# Altium footprint library G6K-2F-Y-TR.PcbLib: 1 footprints
Each footprint in its own frame and in the unit in brackets; x right, y up, seen from the top. Pads: shape width x height; smd on the part's side, far side on the other; paste and mask are expansions set on the pad; w line width, h text height; cw(c..) or ccw(c..) is an arc to the next point about the centre after c.
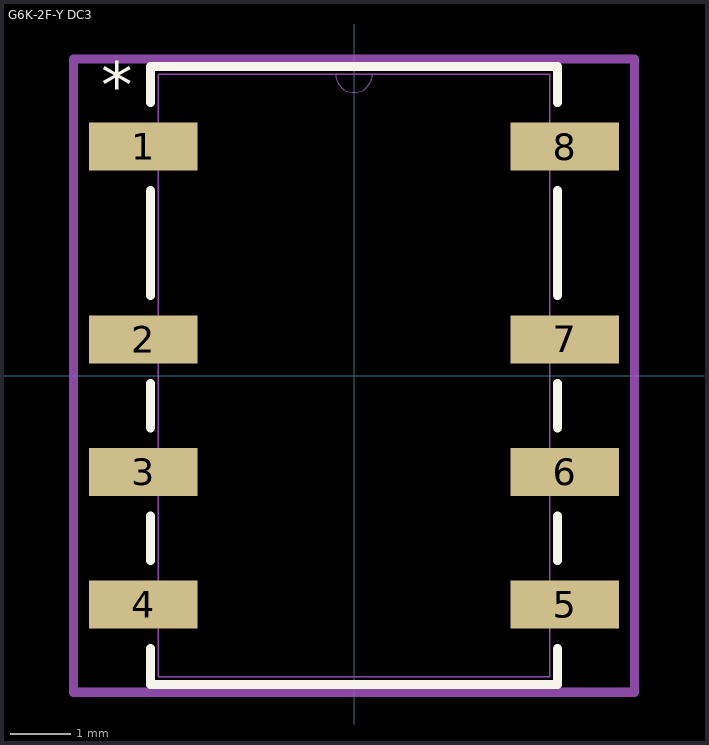
[diagram p0: the footprint, top view; thin cyan lines are the x and y axes]

## G6K-2F-Y DC3 [mm]
height 5.2
pads (8):
  rect 1.8x0.8 smd paste+0 mask+0: 1(-3.5,3.8) 2(-3.5,0.6) 3(-3.5,-1.6) 4(-3.5,-3.8) 5(3.5,-3.8) 6(3.5,-1.6) 7(3.5,0.6) 8(3.5,3.8)
Top Overlay:
  lines w0.152: -3.377,-4.533 -3.377,-5.127 3.377,-5.127 3.377,-4.533 ; -3.377,-3.067 -3.377,-2.333 ; -3.377,-0.867 -3.377,-0.133 ; -3.377,1.333 -3.377,3.067 ; -3.377,4.533 -3.377,5.127 3.377,5.127 3.377,4.533 ; 3.377,-3.067 3.377,-2.333 ; 3.377,-0.867 3.377,-0.133 ; 3.377,1.333 3.377,3.067
  text "*" at -4.191,4.445 h0.76
Mechanical 13:
  lines w0: -0.305,5 ccw(c0,5) 0.305,5
  lines w0.025: -3.25,-5 -3.25,5 3.25,5 3.25,-5 -3.25,-5
Mechanical 15:
  lines w0.152: -4.654,-5.254 4.654,-5.254 4.654,5.254 -4.654,5.254 -4.654,-5.254
3D body "G6K_2F_Y.step": height 5.2, standoff 0, extent -3.9,-4.99 3.9,5.01